# Altium footprint library NXP_RFID.PcbLib: 23 footprints (part 2 of 2)
Each footprint in its own frame and in the unit in brackets; x right, y up, seen from the top. Pads: shape width x height; smd on the part's side, far side on the other; paste and mask are expansions set on the pad; w line width, h text height; cw(c..) or ccw(c..) is an arc to the next point about the centre after c.
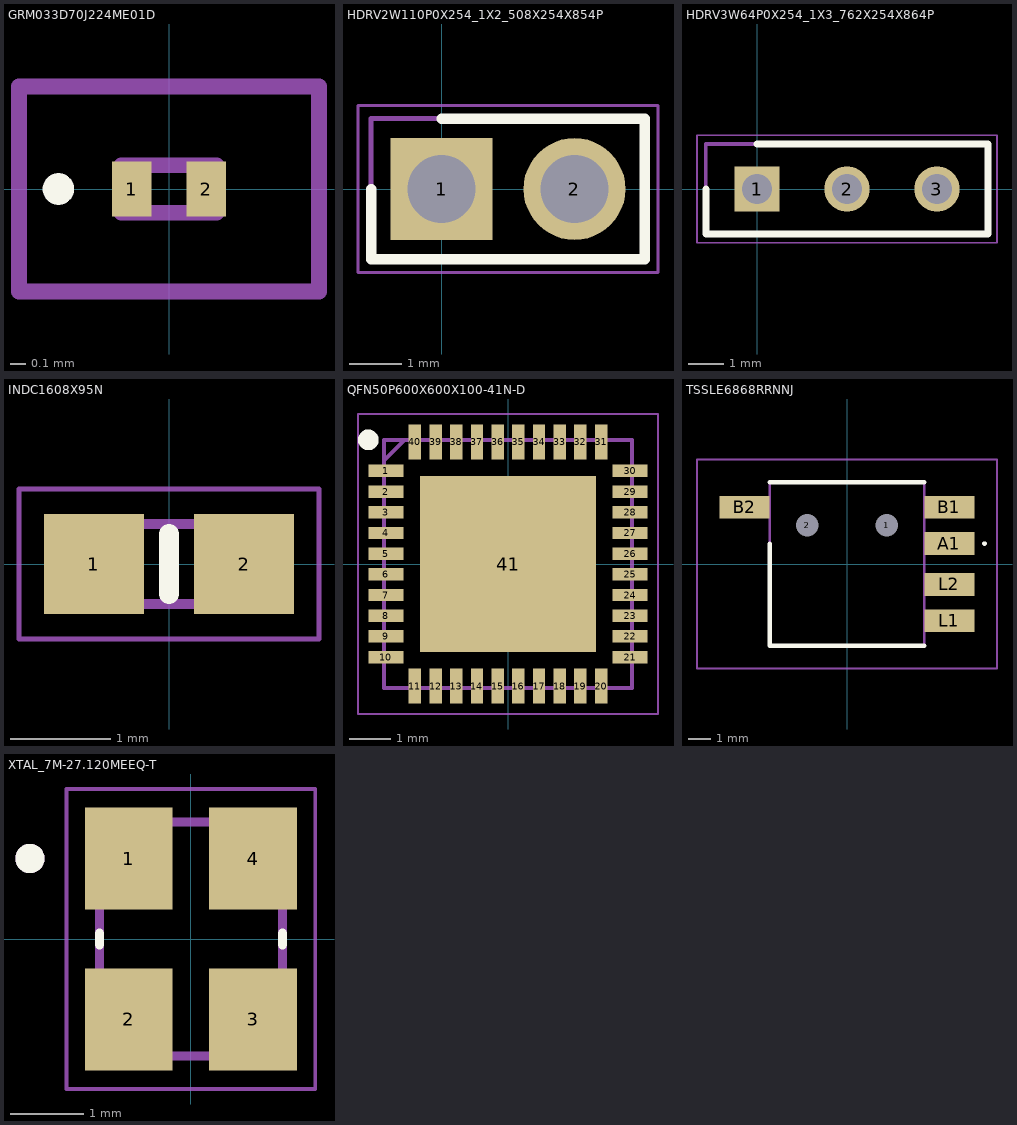
[diagram p1: the footprints below, top view; thin cyan lines are the x and y axes]

## GRM033D70J224ME01D [mm]
pads (2):
  rect 0.25x0.35 smd: 1(-0.237,0) 2(0.237,0)
Top Overlay:
  lines w0.1: -0.7,-0.05 ccw(c-0.7,0) -0.7,0.05 ccw(c-0.7,0) -0.7,-0.05
Mechanical 13:
  lines w0.1: -0.3,-0.15 -0.3,0.15 0.3,0.15 0.3,-0.15 -0.3,-0.15
Mechanical 15:
  lines w0.1: -0.95,-0.65 -0.95,0.65 0.95,0.65 0.95,-0.65 -0.95,-0.65
3D body "GRM0335C1H221GA01D.stp": height 0.3, standoff 0, extent -0.3,-0.15 0.3,0.15

## HDRV2W110P0X254_1X2_508X254X854P [mm]
pads (2):
  rect 1.95x1.95 hole 1.3: 1(0,0)
  round 1.95 hole 1.3: 2(2.54,0)
Top Overlay:
  lines w0.2: -1.345,0 -1.345,-1.345 3.885,-1.345 3.885,1.345 0,1.345
Mechanical 13:
  lines w0.1: -1.345,-1.345 3.885,-1.345 3.885,1.345 -1.345,1.345 -1.345,-1.345
Mechanical 15:
  lines w0.05: -1.595,-1.595 4.135,-1.595 4.135,1.595 -1.595,1.595 -1.595,-1.595
3D body "61300211121.stp": height 8.54, standoff -3.15, extent -1.27,-1.27 3.81,1.27

## HDRV3W64P0X254_1X3_762X254X864P [mm]
pads (3):
  rect 1.275x1.275 hole 0.85: 1(0,0)
  round 1.275 hole 0.85: 2(2.54,0) 3(5.08,0)
Top Overlay:
  lines w0.2: -1.445,0 -1.445,-1.27 6.525,-1.27 6.525,1.27 0,1.27
Mechanical 13:
  lines w0.1: -1.445,-1.27 6.525,-1.27 6.525,1.27 -1.445,1.27 -1.445,-1.27
Mechanical 15:
  lines w0.05: -1.695,-1.52 6.775,-1.52 6.775,1.52 -1.695,1.52 -1.695,-1.52
3D body "M20-9990345.stp": height 8.64, standoff -3, extent -1.27,-1.27 6.35,1.27

## INDC1608X95N [mm]
pads (2):
  rect 1x1 smd: 1(-0.75,0) 2(0.75,0)
Top Overlay:
  lines w0.2: 0,-0.3 0,0.3
Mechanical 13:
  lines w0.1: -0.8,-0.4 0.8,-0.4 0.8,0.4 -0.8,0.4 -0.8,-0.4
Mechanical 15:
  lines w0.05: -1.5,-0.75 1.5,-0.75 1.5,0.75 -1.5,0.75 -1.5,-0.75
3D body "7447860247G.stp": height 0.95, standoff 0, extent -0.8,-0.4 0.8,0.4

## QFN50P600X600X100-41N-D [mm]
pads (41):
  rect 0.85x0.3 smd: 1(-2.95,2.25) 2(-2.95,1.75) 3(-2.95,1.25) 4(-2.95,0.75) 5(-2.95,0.25) 6(-2.95,-0.25) 7(-2.95,-0.75) 8(-2.95,-1.25) 9(-2.95,-1.75) 10(-2.95,-2.25) 21(2.95,-2.25) 22(2.95,-1.75) 23(2.95,-1.25) 24(2.95,-0.75) 25(2.95,-0.25) 26(2.95,0.25) 27(2.95,0.75) 28(2.95,1.25) 29(2.95,1.75) 30(2.95,2.25)
  rect 0.3x0.85 smd: 11(-2.25,-2.95) 12(-1.75,-2.95) 13(-1.25,-2.95) 14(-0.75,-2.95) 15(-0.25,-2.95) 16(0.25,-2.95) 17(0.75,-2.95) 18(1.25,-2.95) 19(1.75,-2.95) 20(2.25,-2.95) 31(2.25,2.95) 32(1.75,2.95) 33(1.25,2.95) 34(0.75,2.95) 35(0.25,2.95) 36(-0.25,2.95) 37(-0.75,2.95) 38(-1.25,2.95) 39(-1.75,2.95) 40(-2.25,2.95)
  rect 4.25x4.25 smd: 41(0,0)
Top Overlay:
  circle w0.25: c-3.375,3 r0.125
Mechanical 13:
  lines w0.1: -3,2.5 -2.5,3 ; -3,-3 3,-3 3,3 -3,3 -3,-3
Mechanical 15:
  lines w0.05: -3.625,-3.625 3.625,-3.625 3.625,3.625 -3.625,3.625 -3.625,-3.625
3D body "PN5180A0HN_C3Y.stp": height 1, standoff 0, extent -3.05,-3.05 3.05,3.05

## TSSLE6868RRNNJ [mm]
pads (7):
  round 0.5 hole 1 unplated: 1(1.75,1.7) 2(-1.75,1.7)
  rect 2.2x1 smd: A1(4.5,0.9) B1(4.5,2.5) B2(-4.5,2.5) L1(4.5,-2.5) L2(4.5,-0.9)
Top Overlay:
  lines w0.1: 6,0.9 ccw(c6.05,0.9) 6.1,0.9 ccw(c6.05,0.9) 6,0.9
  lines w0.2: -3.4,0.9 -3.4,-3.6 3.4,-3.6 ; -3.4,3.6 3.4,3.6
Mechanical 13:
  lines w0.1: -3.4,-3.6 -3.4,3.6 3.4,3.6 3.4,-3.6 -3.4,-3.6
Mechanical 15:
  lines w0.1: -6.6,-4.6 -6.6,4.6 6.6,4.6 6.6,-4.6 -6.6,-4.6
3D body "TSSLE_6868_R_RNN_J.stp": height 5.85, standoff -1.7, extent -5.5,-3.6 5.5,3.6

## XTAL_7M-27.120MEEQ-T [mm]
height 0.8
pads (4):
  rect 1.2x1.4 smd: 1(-0.85,1.1) 2(-0.85,-1.1) 3(0.85,-1.1) 4(0.85,1.1)
Top Overlay:
  circle w0.2: c-2.2,1.1 r0.1
  lines w0.127: -1.25,-0.08 -1.25,0.08 ; 1.25,-0.08 1.25,0.08
Mechanical 13:
  circle w0.2: c-2.2,1.1 r0.1
  lines w0.127: -1.25,-1.6 -1.25,1.6 1.25,1.6 1.25,-1.6 -1.25,-1.6
Mechanical 15:
  lines w0.05: -1.7,-2.05 -1.7,2.05 1.7,2.05 1.7,-2.05 -1.7,-2.05
3D body "step_temp.STEP": height 0.8, standoff 0, extent -1.25,-1.6 1.25,1.6